# Altium footprint library Control_Board_Model_C201.PcbLib: 124 footprints (part 8 of 8)
Each footprint in its own frame and in the unit in brackets; x right, y up, seen from the top. Pads: shape width x height; smd on the part's side, far side on the other; paste and mask are expansions set on the pad; w line width, h text height; cw(c..) or ccw(c..) is an arc to the next point about the centre after c.
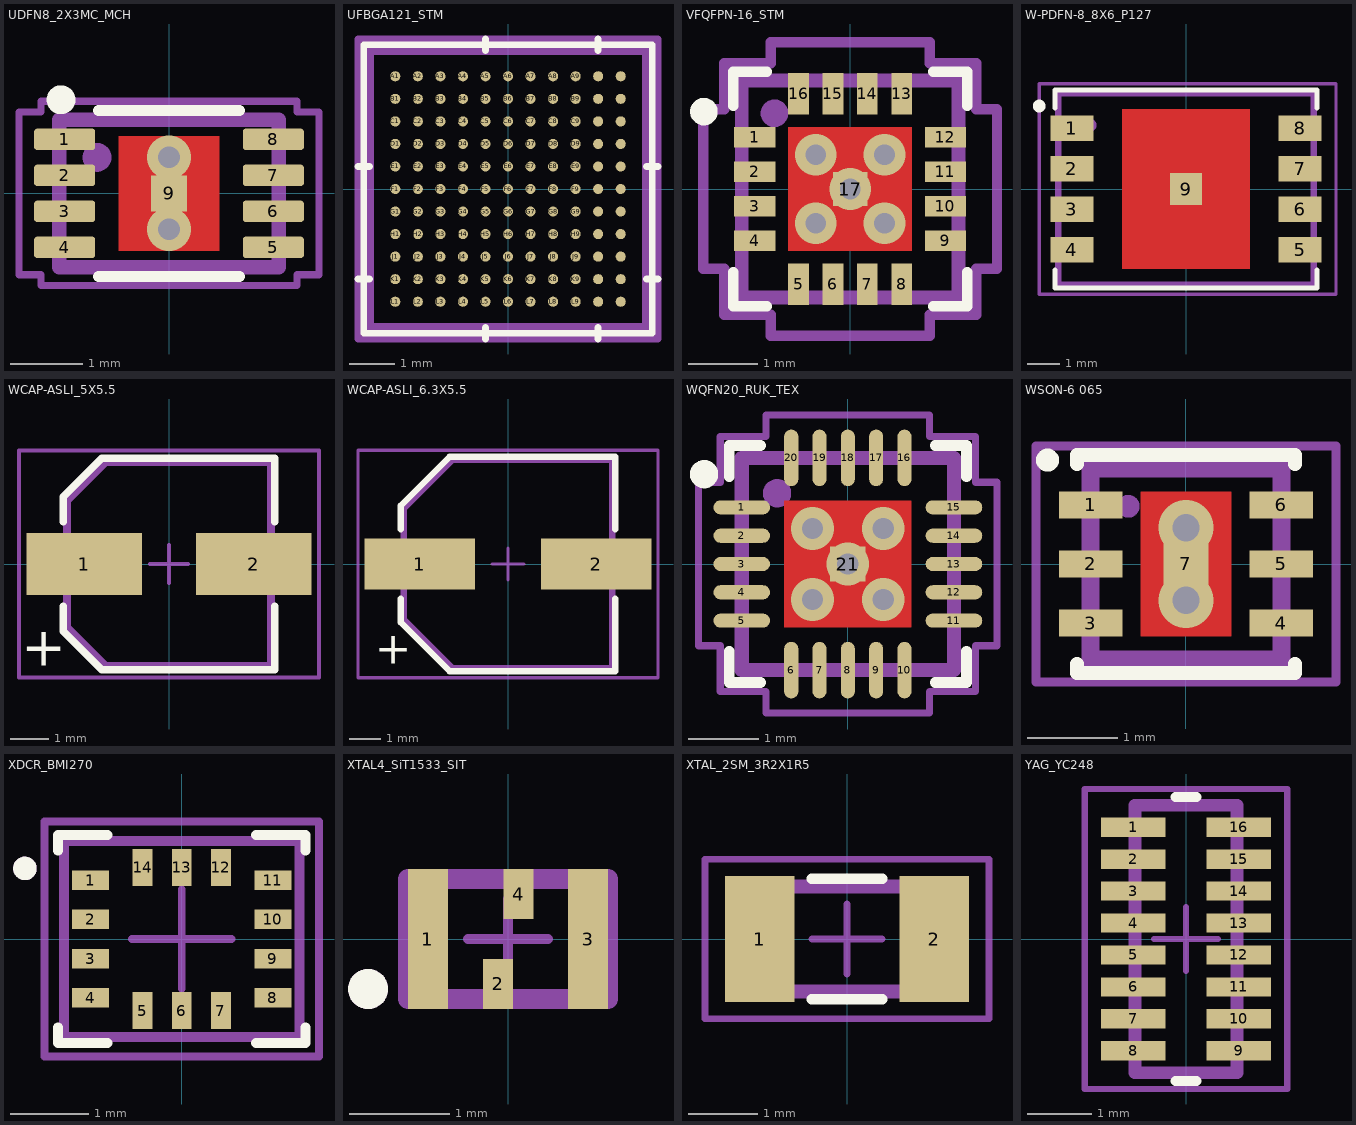
[diagram p7: the footprints below, top view; thin cyan lines are the x and y axes]

## UDFN8_2X3MC_MCH [mm] "8-UFDFN Exposed Pad"
pads (9):
  rrect30% 0.85x0.3 smd mask+0.05: 1(-1.45,0.75) 2(-1.45,0.25) 3(-1.45,-0.25) 4(-1.45,-0.75) 5(1.45,-0.75) 6(1.45,-0.25) 7(1.45,0.25) 8(1.45,0.75)
  rect 0.5x0.5 smd mask+0.05: 9(0,0)
via 0,-0.5 diameter 0.605 hole 0.3
via 0,0.5 diameter 0.605 hole 0.3
Top Layer:
  rectangle: -0.7,-0.8 0.7,0.8
Top Overlay:
  circle w0.2: c-1.5,1.3 r0.1
  lines w0.152: -0.982,-1.152 0.982,-1.152 ; -0.982,1.152 0.982,1.152
Top Paste:
  rectangle: -0.7,-0.8 0.7,0.8
Top Solder:
  rectangle: -0.75,-0.85 0.75,0.85
Mechanical 14:
  circle w0.2: c-1,0.5 r0.1
  lines w0.2: -1.525,-1.025 1.525,-1.025 1.525,1.025 -1.525,1.025 -1.525,-1.025
  text "'.Designator'" at -0.7,-0.3 h0.5
Mechanical 15:
  lines w0.1: -0.5,0 0.5,0 ; 0,-0.5 0,0.5 ; -2.084,-1.131 -2.084,1.131 -1.779,1.131 -1.779,1.279 1.779,1.279 1.779,1.131 2.084,1.131 2.084,-1.131 1.779,-1.131 1.779,-1.279 -1.779,-1.279 -1.779,-1.131 -2.084,-1.131
3D body "UDFN8_2x3MC_MCH.step": height 0.48, standoff 0, extent -1.525,-1.025 1.525,1.025

## UFBGA121_STM [mm]
pads (121):
  round 0.225 smd paste+0 mask+0.05: A1(-2.5,2.5) A2(-2,2.5) A3(-1.5,2.5) A4(-1,2.5) A5(-0.5,2.5) A6(0,2.5) A7(0.5,2.5) A8(1,2.5) A9(1.5,2.5) A10(2,2.5) A11(2.5,2.5) B1(-2.5,2) B2(-2,2) B3(-1.5,2) B4(-1,2) B5(-0.5,2) B6(0,2) B7(0.5,2) B8(1,2) B9(1.5,2) B10(2,2) B11(2.5,2) C1(-2.5,1.5) C2(-2,1.5) C3(-1.5,1.5) C4(-1,1.5) C5(-0.5,1.5) C6(0,1.5) C7(0.5,1.5) C8(1,1.5) C9(1.5,1.5) C10(2,1.5) C11(2.5,1.5) D1(-2.5,1) D2(-2,1) D3(-1.5,1) D4(-1,1) D5(-0.5,1) D6(0,1) D7(0.5,1) D8(1,1) D9(1.5,1) D10(2,1) D11(2.5,1) E1(-2.5,0.5) E2(-2,0.5) E3(-1.5,0.5) E4(-1,0.5) E5(-0.5,0.5) E6(0,0.5) E7(0.5,0.5) E8(1,0.5) E9(1.5,0.5) E10(2,0.5) E11(2.5,0.5) F1(-2.5,0) F2(-2,0) F3(-1.5,0) F4(-1,0) F5(-0.5,0) F6(0,0) F7(0.5,0) F8(1,0) F9(1.5,0) F10(2,0) F11(2.5,0) G1(-2.5,-0.5) G2(-2,-0.5) G3(-1.5,-0.5) G4(-1,-0.5) G5(-0.5,-0.5) G6(0,-0.5) G7(0.5,-0.5) G8(1,-0.5) G9(1.5,-0.5) G10(2,-0.5) G11(2.5,-0.5) H1(-2.5,-1) H2(-2,-1) H3(-1.5,-1) H4(-1,-1) H5(-0.5,-1) H6(0,-1) H7(0.5,-1) H8(1,-1) H9(1.5,-1) H10(2,-1) H11(2.5,-1) J1(-2.5,-1.5) J2(-2,-1.5) J3(-1.5,-1.5) J4(-1,-1.5) J5(-0.5,-1.5) J6(0,-1.5) J7(0.5,-1.5) J8(1,-1.5) J9(1.5,-1.5) J10(2,-1.5) J11(2.5,-1.5) K1(-2.5,-2) K2(-2,-2) K3(-1.5,-2) K4(-1,-2) K5(-0.5,-2) K6(0,-2) K7(0.5,-2) K8(1,-2) K9(1.5,-2) K10(2,-2) K11(2.5,-2) L1(-2.5,-2.5) L2(-2,-2.5) L3(-1.5,-2.5) L4(-1,-2.5) L5(-0.5,-2.5) L6(0,-2.5) L7(0.5,-2.5) L8(1,-2.5) L9(1.5,-2.5) L10(2,-2.5) L11(2.5,-2.5)
Top Overlay:
  lines w0.152: -3.327,-2 -3.073,-2 ; -3.327,0.5 -3.073,0.5 ; -0.5,-3.327 -0.5,-3.073 ; -0.5,3.073 -0.5,3.327 ; 2,-3.327 2,-3.073 ; 2,3.073 2,3.327 ; 3.073,-2 3.327,-2 ; 3.073,0.5 3.327,0.5 ; -3.2,-3.2 -3.2,3.2 3.2,3.2 3.2,-3.2 -3.2,-3.2
Mechanical 14:
  lines w0.2: -3.073,-3.073 -3.073,3.073 3.073,3.073 3.073,-3.073 -3.073,-3.073
Mechanical 15:
  lines w0.152: -3.327,-3.327 3.327,-3.327 3.327,3.327 -3.327,3.327 -3.327,-3.327
3D body "UFBGA121_STM.step": height 0.61, standoff 0, extent -3.073,-3.073 3.073,3.073

## VFQFPN-16_STM [mm]
pads (17):
  rect 0.6x0.3 smd mask+0.05: 1(-1.385,0.75) 2(-1.385,0.25) 3(-1.385,-0.25) 4(-1.385,-0.75) 9(1.385,-0.75) 10(1.385,-0.25) 11(1.385,0.25) 12(1.385,0.75)
  rect 0.3x0.6 smd mask+0.05: 5(-0.75,-1.385) 6(-0.25,-1.385) 7(0.25,-1.385) 8(0.75,-1.385) 13(0.75,1.385) 14(0.25,1.385) 15(-0.25,1.385) 16(-0.75,1.385)
  rect 0.5x0.5 smd mask+0.05: 17(0,0)
via 0,0 diameter 0.605 hole 0.3
via 0.5,-0.5 diameter 0.605 hole 0.3
via -0.5,-0.5 diameter 0.605 hole 0.3
via 0.5,0.5 diameter 0.605 hole 0.3
via -0.5,0.5 diameter 0.605 hole 0.3
Top Layer:
  rectangle: -0.9,-0.9 0.9,0.9
Top Overlay:
  circle w0.2: c-2.125,1.125 r0.1
  lines w0.152: -1.702,-1.21 -1.702,-1.702 -1.21,-1.702 ; -1.702,1.21 -1.702,1.702 -1.21,1.702 ; 1.21,-1.702 1.702,-1.702 1.702,-1.21 ; 1.21,1.702 1.702,1.702 1.702,1.21
Top Paste:
  rectangle: -0.9,-0.9 0.9,0.9
Top Solder:
  rectangle: -0.95,-0.95 0.95,0.95
Mechanical 14:
  circle w0.2: c-1.1,1.1 r0.1
  lines w0.2: -1.575,-1.575 1.575,-1.575 1.575,1.575 -1.575,1.575 -1.575,-1.575
  text "'.Designator'" at -1,-0.2 h0.5
Mechanical 15:
  lines w0.1: -0.5,0 0.5,0 ; 0,-0.5 0,0.5
  lines w0.152: -2.134,-1.156 -1.829,-1.156 -1.829,-1.829 -1.156,-1.829 -1.156,-2.134 1.156,-2.134 1.156,-1.829 1.829,-1.829 1.829,-1.156 2.134,-1.156 2.134,1.156 1.829,1.156 1.829,1.829 1.156,1.829 1.156,2.134 -1.156,2.134 -1.156,1.829 -1.829,1.829 -1.829,1.156 -2.134,1.156 -2.134,-1.156
3D body "VFQFPN-16_STM.step": height 0.94, standoff 0, extent -1.575,-1.575 1.575,1.575

## W-PDFN-8_8X6_P127 [mm]
pads (9):
  rect 1.35x0.8 smd mask+0.05: 1(-3.575,1.905) 2(-3.575,0.635) 3(-3.575,-0.635) 4(-3.575,-1.905) 5(3.575,-1.905) 6(3.575,-0.635) 7(3.575,0.635) 8(3.575,1.905)
  rect 1x1 smd mask+0.05: 9(0,0)
Top Layer:
  rectangle: -2,-2.5 2,2.5
Top Overlay:
  circle w0.2: c-4.6,2.6 r0.1
  lines w0.152: -4.1,-2.54 -4.1,-3.1 4.1,-3.1 4.1,-2.54 ; -4.1,2.54 -4.1,3.1 4.1,3.1 4.1,2.54
Top Paste:
  rectangle: -2,-2.5 2,2.5
Top Solder:
  rectangle: -2.05,-2.55 2.05,2.55
Mechanical 14:
  circle w0.2: c-3,2 r0.1
  lines w0.2: 4,3 4,3 ; 4,3 4,-3 -4,-3 -4,3 4,3
  text ".Designator" at -1.1,-0.2 h0.5
Mechanical 15:
  lines w0.1: -0.635,0 0.635,0 ; 0,-0.635 0,0.635 ; -4.6,-3.3 4.7,-3.3 4.7,3.3 -4.6,3.3 -4.6,-3.3
3D body: height 0.8, standoff 0, extent -4.005,-3.005 4.005,3.005

## WCAP-ASLI_5X5.5 [mm] "Aluminium Electrolytic V-Chip SMT Capacitors, 5x5.5mm"
height 5.5
pads (2):
  rect 3x1.6 smd: 1(-2.2,0) 2(2.2,0)
Top Overlay:
  lines w0.2: -2.75,-1.1 -2.75,-1.75 -1.75,-2.75 2.75,-2.75 2.75,-1.1 ; -2.75,1.1 -2.75,1.75 -1.75,2.75 2.75,2.75 2.75,1.1
  text "+" at -2.667,-1.778 h1.02
Mechanical 14:
  lines w0.2: -2.65,-1.65 -1.65,-2.65 2.65,-2.65 2.65,2.65 -1.65,2.65 -2.65,1.65 -2.65,-1.65
  text "'.Designator'" at 0.254,-0.635 h0.5
  text "+" at -1.524,0.508 h1.02
Mechanical 15:
  lines w0.1: -0.5,0 0.5,0 ; 0,-0.5 0,0.5 ; -3.9,-2.95 -3.9,2.95 3.9,2.95 3.9,-2.95 -3.9,-2.95
3D body "5x5.5x1.4.stp": height 5.5, standoff 0, extent -3,-2.65 3,2.65

## WCAP-ASLI_6.3X5.5 [mm] "Aluminium Electrolytic V-Chip SMT Capacitors, 6.3x5.5mm"
height 5.5
pads (2):
  rect 3.5x1.6 smd: 1(-2.8,0) 2(2.8,0)
Top Overlay:
  lines w0.2: -3.4,-1.1 -3.4,-1.85 -1.85,-3.4 3.4,-3.4 3.4,-1.1 ; -3.4,1.1 -3.4,1.85 -1.85,3.4 3.4,3.4 3.4,1.1
  text "+" at -3.048,-2.286 h1.02
Mechanical 14:
  lines w0.2: -3.3,-1.75 -1.75,-3.3 3.3,-3.3 3.3,3.3 -1.75,3.3 -3.3,1.75 -3.3,-1.75
  text "'.Designator'" at -0.635,0 h0.5
  text "+" at -2.159,0.508 h1.02
Mechanical 15:
  lines w0.1: -0.5,0 0.5,0 ; 0,-0.5 0,0.5 ; -4.75,-3.6 -4.75,3.6 4.75,3.6 4.75,-3.6 -4.75,-3.6
3D body "6.3x5.5x2.2.stp": height 5.5, standoff 0, extent -3.65,-3.3 3.65,3.3

## WQFN20_RUK_TEX [mm]
pads (21):
  rrect100% 0.8x0.2 smd mask+0.05: 1(-1.5,0.8) 2(-1.5,0.4) 3(-1.5,0) 4(-1.5,-0.4) 5(-1.5,-0.8) 11(1.5,-0.8) 12(1.5,-0.4) 13(1.5,0) 14(1.5,0.4) 15(1.5,0.8)
  rrect100% 0.2x0.8 smd mask+0.05: 6(-0.8,-1.5) 7(-0.4,-1.5) 8(0,-1.5) 9(0.4,-1.5) 10(0.8,-1.5) 16(0.8,1.5) 17(0.4,1.5) 18(0,1.5) 19(-0.4,1.5) 20(-0.8,1.5)
  rect 0.5x0.5 smd paste-2 mask+0.05: 21(0,0)
via 0,0 diameter 0.605 hole 0.3
via -0.5,0.5 diameter 0.605 hole 0.3
via 0.5,0.5 diameter 0.605 hole 0.3
via -0.5,-0.5 diameter 0.605 hole 0.3
via 0.5,-0.5 diameter 0.605 hole 0.3
Top Layer:
  rectangle: -0.9,-0.9 0.9,0.9
Top Overlay:
  circle w0.2: c-2.032,1.27 r0.1
  lines w0.152: -1.676,-1.234 -1.676,-1.676 -1.234,-1.676 ; -1.676,1.234 -1.676,1.676 -1.234,1.676 ; 1.234,-1.676 1.676,-1.676 1.676,-1.234 ; 1.234,1.676 1.676,1.676 1.676,1.234
Top Paste:
  rectangle: -0.85,0.15 -0.15,0.85
  region: -0.15,-0.85 -0.15,-0.15 -0.85,-0.15 -0.85,-0.85
  region: 0.85,-0.15 0.15,-0.15 0.15,-0.85 0.85,-0.85
  region: 0.15,0.85 0.15,0.15 0.85,0.15 0.85,0.85
Top Solder:
  rectangle: -0.95,-0.95 0.95,0.95
Mechanical 14:
  circle w0.2: c-1,1 r0.1
  lines w0.2: -1.5,-1.5 1.5,-1.5 1.5,1.5 -1.5,1.5 -1.5,-1.5
  text "'.Designator'" at -0.8,-0.3 h0.5
Mechanical 15:
  lines w0.1: -0.5,0 0.5,0 ; 0,-0.5 0,0.5 ; -2.108,-1.156 -1.803,-1.156 -1.803,-1.803 -1.156,-1.803 -1.156,-2.108 1.156,-2.108 1.156,-1.803 1.803,-1.803 1.803,-1.156 2.108,-1.156 2.108,1.156 1.803,1.156 1.803,1.803 1.156,1.803 1.156,2.108 -1.156,2.108 -1.156,1.803 -1.803,1.803 -1.803,1.156 -2.108,1.156 -2.108,-1.156
3D body "RUK0020B.stp": height 0.8, standoff 0, extent -1.5,-1.5 1.5,1.5

## WSON-6 065 [mm]
height 0.8
pads (7):
  rect 0.7x0.3 smd mask+0.05: 1(-1.05,0.65) 2(-1.05,0) 3(-1.05,-0.65) 4(1.05,-0.65) 5(1.05,0) 6(1.05,0.65)
  rect 0.5x0.5 smd mask+0.05: 7(0,0)
via 0,-0.4 diameter 0.605 hole 0.3
via 0,0.4 diameter 0.605 hole 0.3
Top Layer:
  rectangle: -0.5,-0.8 0.5,0.8
Top Overlay:
  circle w0.152: c-1.524,1.143 r0.051
  lines w0.152: -1.2,-1.1 -1.2,-1.2 1.2,-1.2 1.2,-1.1 ; -1.2,1.1 -1.2,1.2 1.2,1.2 1.2,1.1
Top Paste:
  rectangle: -0.5,-0.8 0.5,0.8
Top Solder:
  rectangle: -0.55,-0.85 0.55,0.85
Mechanical 14:
  circle w0.15: c-0.635,0.635 r0.05
  lines w0.2: -1.05,-1.05 1.05,-1.05 1.05,1.05 -1.05,1.05 -1.05,-1.05
  text "'.Designator'" at 0.254,-0.635 h0.5
Mechanical 15:
  lines w0.1: -0.4,0 0.4,0 ; 0,-0.4 0,0.4 ; -1.651,-1.3 -1.651,1.3 1.651,1.3 1.651,-1.3 -1.651,-1.3
3D body "WSON-6.STEP": height 0.8, standoff 0, extent -1.05,-1.05 1.05,1.05

## XDCR_BMI270 [mm]
pads (14):
  rect 0.475x0.25 smd mask+0.05: 1(-1.162,0.75) 2(-1.162,0.25) 3(-1.162,-0.25) 4(-1.162,-0.75) 8(1.162,-0.75) 9(1.162,-0.25) 10(1.162,0.25) 11(1.162,0.75)
  rect 0.25x0.475 smd mask+0.05: 5(-0.5,-0.913) 6(0,-0.913) 7(0.5,-0.913) 12(0.5,0.913) 13(0,0.913) 14(-0.5,0.913)
Top Overlay:
  circle w0.15: c-2,0.9 r0.075
  lines w0.127: -1.575,-1.125 -1.575,-1.325 -0.945,-1.325 ; -1.575,1.125 -1.575,1.325 -0.945,1.325 ; 0.945,-1.325 1.575,-1.325 1.575,-1.125 ; 0.945,1.325 1.575,1.325 1.575,1.125
Mechanical 14:
  circle w0.15: c-2,0.9 r0.075
  lines w0.127: -1.5,-1.25 1.5,-1.25 1.5,1.25 -1.5,1.25 -1.5,-1.25
  text "'.Designator'" at -0.9,-0.2 h0.5
Mechanical 15:
  lines w0.1: -0.635,0 0.635,0 ; 0,-0.635 0,0.635 ; -1.75,-1.5 -1.75,1.5 1.75,1.5 1.75,-1.5 -1.75,-1.5
3D body "User Library-LGA-14 2_5x3-1.STEP": height 0.86, standoff 0, extent -1.5,-1.25 1.5,1.25

## XTAL4_SiT1533_SIT [mm]
pads (4):
  rect 0.4x1.4 smd paste+0 mask+0.05: 1(-0.8,0) 3(0.8,0)
  rect 0.3x0.5 smd paste+0 mask+0.05: 2(-0.099,-0.45) 4(0.106,0.45)
Top Overlay:
  circle w0.2: c-1.4,-0.5 r0.1
Mechanical 14:
  circle w0.2: c-1.4,-0.5 r0.1
  lines w0.2: -1,-0.6 -1,0.6 1,0.6 1,-0.6 -1,-0.6
  text "'.Designator'" at -0.7,-0.3 h0.5
Mechanical 15:
  lines w0.1: -0.4,0 0.4,0 ; 0,-0.4 0,0.4 ; -1,0 -1,0.6 0,0.6 1,0.6 1,0 ; -1,0 -1.003,0 -1,0 ; -1,0 -1,-0.6 0,-0.6 1,-0.6 1,0 ; 1,0 1.003,0 1,0
3D body "SMD_2012_4pins.stp": height 0.55, standoff -0.05, extent -1,-0.6 1,0.6

## XTAL_2SM_3R2X1R5 [mm]
pads (2):
  rect 1x1.8 smd: 1(-1.25,0) 2(1.25,0)
Top Overlay:
  lines w0.152: -0.508,-0.864 0.508,-0.864 ; -0.508,0.864 0.508,0.864
Mechanical 14:
  lines w0.2: -1.6,-0.75 1.6,-0.75 1.6,0.75 -1.6,0.75 -1.6,-0.75
  text ".Designator" at -1.1,-0.2 h0.5
Mechanical 15:
  lines w0.1: -0.5,0 0.5,0 ; 0,-0.5 0,0.5 ; -2.032,-1.143 2.032,-1.143 2.032,1.143 -2.032,1.143 -2.032,-1.143
3D body: height 0.8, standoff 0, extent -1.6,-0.75 1.6,0.75

## YAG_YC248 [mm]
pads (16):
  rect 1.016x0.3 smd: 1(-0.826,1.75) 2(-0.826,1.25) 3(-0.826,0.75) 4(-0.826,0.25) 5(-0.826,-0.25) 6(-0.826,-0.75) 7(-0.826,-1.25) 8(-0.826,-1.75) 9(0.826,-1.75) 10(0.826,-1.25) 11(0.826,-0.75) 12(0.826,-0.25) 13(0.826,0.25) 14(0.826,0.75) 15(0.826,1.25) 16(0.826,1.75)
Top Overlay:
  lines w0.152: -0.163,-2.222 0.163,-2.222 ; -0.163,2.222 0.163,2.222
Mechanical 13:
  lines w0: -0.8,-1.572 ccw(c-0.8,-1.5) -0.8,-1.428 ; -0.8,-1.072 ccw(c-0.8,-1) -0.8,-0.928 ; -0.8,-0.572 ccw(c-0.8,-0.5) -0.8,-0.428 ; -0.8,-0.072 ccw(c-0.8,0) -0.8,0.072 ; -0.8,0.428 ccw(c-0.8,0.5) -0.8,0.572 ; -0.8,0.928 ccw(c-0.8,1) -0.8,1.072 ; -0.8,1.428 ccw(c-0.8,1.5) -0.8,1.572 ; 0.8,-1.572 cw(c0.8,-1.5) 0.8,-1.428 ; 0.8,-1.072 cw(c0.8,-1) 0.8,-0.928 ; 0.8,-0.572 cw(c0.8,-0.5) 0.8,-0.428 ; 0.8,-0.072 cw(c0.8,0) 0.8,0.072 ; 0.8,0.428 cw(c0.8,0.5) 0.8,0.572 ; 0.8,0.928 cw(c0.8,1) 0.8,1.072 ; 0.8,1.428 cw(c0.8,1.5) 0.8,1.572
Mechanical 14:
  lines w0.2: -0.8,-2.096 -0.8,2.096 0.8,2.096 0.8,-2.096 -0.8,-2.096
  text "'.Designator'" at -0.127,0.889 h0.5
Mechanical 15:
  lines w0.1: -0.5,0 0.5,0 ; 0,-0.5 0,0.5 ; -1.587,-2.349 -1.587,2.349 1.587,2.349 1.587,-2.349 -1.587,-2.349
3D body "YAG_YC248.step": height 0.56, standoff 0, extent -0.8,-2.096 0.8,2.096